# Altium footprint library MiscParts.PcbLib: 14 footprints
Each footprint in its own frame and in the unit in brackets; x right, y up, seen from the top. Pads: shape width x height; smd on the part's side, far side on the other; paste and mask are expansions set on the pad; w line width, h text height; cw(c..) or ccw(c..) is an arc to the next point about the centre after c.
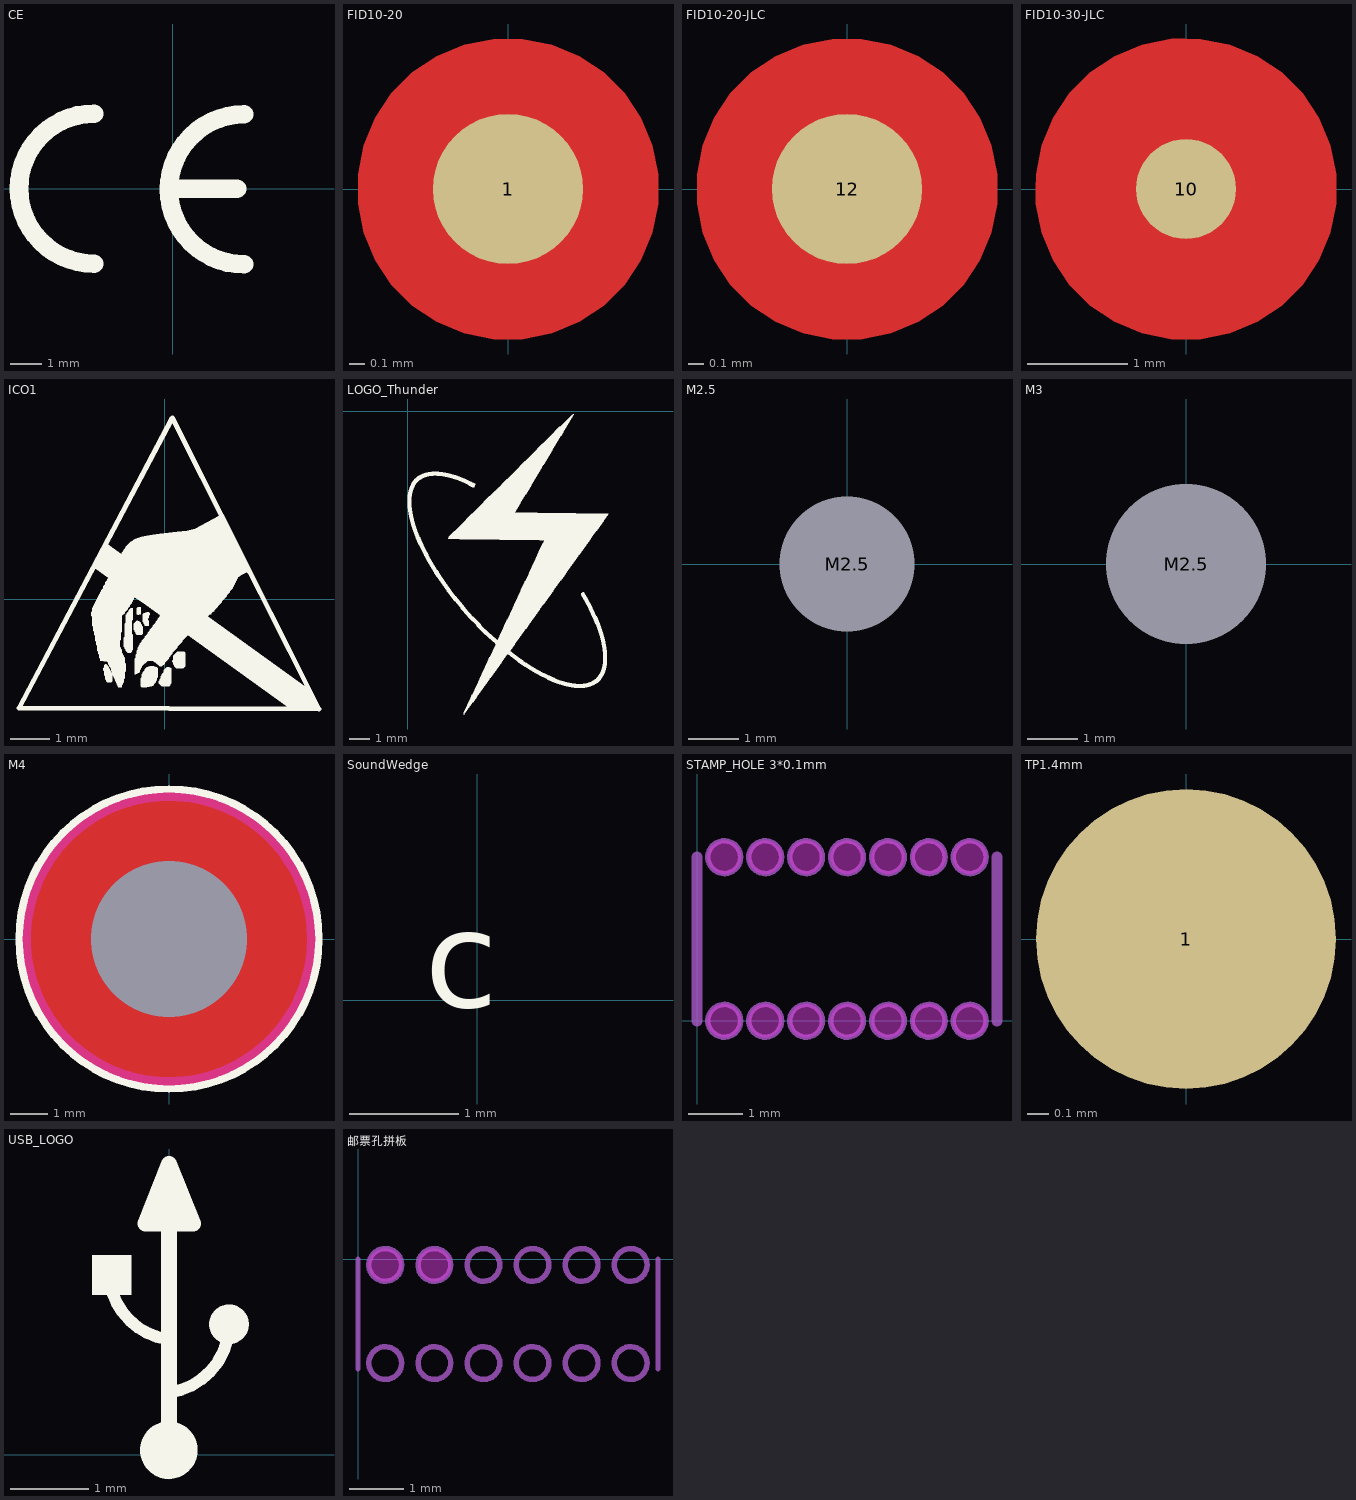
[diagram p0: the footprints below, top view; thin cyan lines are the x and y axes]

## CE [mm]
Top Overlay:
  lines w0.6: -2.53,-2.413 cw(c-2.53,0) -2.53,2.413 ; 0,0 2.07,0 ; 2.296,-2.438 cw(c2.296,-0.025) 2.296,2.388

## FID10-20 [mm] "Fiducial mark.  There is nothing to buy or mount."
pads (1):
  round 1 smd mask+0.5: 1(0,0)
Top Layer:
  pour cut-out: 0,-1 -0.098,-1 -0.292,-0.962 -0.474,-0.886 -0.637,-0.777 -0.777,-0.637 -0.886,-0.474 -0.962,-0.292 -1,-0.098 -1,0 -1,0.098 -0.962,0.292 -0.886,0.474 -0.777,0.637 -0.637,0.777 -0.474,0.886 -0.292,0.962 -0.098,1 0,1 0.098,1 0.292,0.962 0.474,0.886 0.637,0.777 0.777,0.637 0.886,0.474 0.962,0.292 1,0.098 1,0 1,-0.098 0.962,-0.292 0.886,-0.474 0.777,-0.637 0.637,-0.777 0.474,-0.886 0.292,-0.962 0.098,-1

## FID10-20-JLC [mm]
pads (1):
  round 1 smd mask+0.5: 12(0,0)
Top Layer:
  pour cut-out: 0,-1 -0.098,-1 -0.292,-0.962 -0.474,-0.886 -0.637,-0.777 -0.777,-0.637 -0.886,-0.474 -0.962,-0.292 -1,-0.098 -1,0 -1,0.098 -0.962,0.292 -0.886,0.474 -0.777,0.637 -0.637,0.777 -0.474,0.886 -0.292,0.962 -0.098,1 0,1 0.098,1 0.292,0.962 0.474,0.886 0.637,0.777 0.777,0.637 0.886,0.474 0.962,0.292 1,0.098 1,0 1,-0.098 0.962,-0.292 0.886,-0.474 0.777,-0.637 0.637,-0.777 0.474,-0.886 0.292,-0.962 0.098,-1

## FID10-30-JLC [mm] "嘉立创标准Mark点"
pads (1):
  round 1 smd mask+1: 10(0,0)
Top Layer:
  pour cut-out: 0,-1.5 -0.148,-1.5 -0.438,-1.442 -0.711,-1.329 -0.956,-1.165 -1.165,-0.956 -1.329,-0.711 -1.442,-0.438 -1.5,-0.148 -1.5,0 -1.5,0.148 -1.442,0.438 -1.329,0.711 -1.165,0.956 -0.956,1.165 -0.711,1.329 -0.438,1.442 -0.148,1.5 0,1.5 0.148,1.5 0.438,1.442 0.711,1.329 0.956,1.165 1.165,0.956 1.329,0.711 1.442,0.438 1.5,0.148 1.5,0 1.5,-0.148 1.442,-0.438 1.329,-0.711 1.165,-0.956 0.956,-1.165 0.711,-1.329 0.438,-1.442 0.148,-1.5

## ICO1 [mm]
Top Overlay:
  drawing of 14 lines, arcs and shapes, not listed

## LOGO_Thunder [mm]
Top Overlay:
  drawing of 2284 lines, arcs and shapes, not listed

## M2.5 [mm]
pads (1):
  round 2.5 hole 2.7 unplated paste+0 mask+1.75: M2.5(0,0)
Multi-Layer:
  pour cut-out: 0,-3 -0.197,-3 -0.587,-2.949 -0.966,-2.847 -1.33,-2.696 -1.67,-2.5 -1.982,-2.26 -2.26,-1.982 -2.5,-1.67 -2.696,-1.33 -2.847,-0.966 -2.949,-0.587 -3,-0.197 -3,0 -3,0.197 -2.949,0.587 -2.847,0.966 -2.696,1.33 -2.5,1.67 -2.26,1.982 -1.982,2.26 -1.67,2.5 -1.33,2.696 -0.966,2.847 -0.587,2.949 -0.197,3 0,3 0.197,3 0.587,2.949 0.966,2.847 1.33,2.696 1.67,2.5 1.982,2.26 2.26,1.982 2.5,1.67 2.696,1.33 2.847,0.966 2.949,0.587 3,0.197 3,0 3,-0.197 2.949,-0.587 2.847,-0.966 2.696,-1.33 2.5,-1.67 2.26,-1.982 1.982,-2.26 1.67,-2.5 1.33,-2.696 0.966,-2.847 0.587,-2.949 0.197,-3

## M3 [mm]
pads (1):
  round 2.5 hole 3.2 unplated paste+0 mask+1.75: M2.5(0,0)
Multi-Layer:
  pour cut-out: 0,-3 -0.197,-3 -0.587,-2.949 -0.966,-2.847 -1.33,-2.696 -1.67,-2.5 -1.982,-2.26 -2.26,-1.982 -2.5,-1.67 -2.696,-1.33 -2.847,-0.966 -2.949,-0.587 -3,-0.197 -3,0 -3,0.197 -2.949,0.587 -2.847,0.966 -2.696,1.33 -2.5,1.67 -2.26,1.982 -1.982,2.26 -1.67,2.5 -1.33,2.696 -0.966,2.847 -0.587,2.949 -0.197,3 0,3 0.197,3 0.587,2.949 0.966,2.847 1.33,2.696 1.67,2.5 1.982,2.26 2.26,1.982 2.5,1.67 2.696,1.33 2.847,0.966 2.949,0.587 3,0.197 3,0 3,-0.197 2.949,-0.587 2.847,-0.966 2.696,-1.33 2.5,-1.67 2.26,-1.982 1.982,-2.26 1.67,-2.5 1.33,-2.696 0.966,-2.847 0.587,-2.949 0.197,-3

## M4 [mm]
pads (1):
  round 0 hole 4.15 unplated paste+0 mask+4: M2.5(0,0)
Top Layer:
  pour cut-out: 0,-4 -0.262,-4 -0.782,-3.932 -1.289,-3.796 -1.773,-3.595 -2.227,-3.333 -2.643,-3.014 -3.014,-2.643 -3.333,-2.227 -3.595,-1.773 -3.796,-1.289 -3.932,-0.782 -4,-0.262 -4,0 -4,0.262 -3.932,0.782 -3.796,1.289 -3.595,1.773 -3.333,2.227 -3.014,2.643 -2.643,3.014 -2.227,3.333 -1.773,3.595 -1.289,3.796 -0.782,3.932 -0.262,4 0,4 0.262,4 0.782,3.932 1.289,3.796 1.773,3.595 2.227,3.333 2.643,3.014 3.014,2.643 3.333,2.227 3.595,1.773 3.796,1.289 3.932,0.782 4,0.262 4,0 4,-0.262 3.932,-0.782 3.796,-1.289 3.595,-1.773 3.333,-2.227 3.014,-2.643 2.643,-3.014 2.227,-3.333 1.773,-3.595 1.289,-3.796 0.782,-3.932 0.262,-4
Bottom Layer:
  pour cut-out: 0,-4 -0.262,-4 -0.782,-3.932 -1.289,-3.796 -1.773,-3.595 -2.227,-3.333 -2.643,-3.014 -3.014,-2.643 -3.333,-2.227 -3.595,-1.773 -3.796,-1.289 -3.932,-0.782 -4,-0.262 -4,0 -4,0.262 -3.932,0.782 -3.796,1.289 -3.595,1.773 -3.333,2.227 -3.014,2.643 -2.643,3.014 -2.227,3.333 -1.773,3.595 -1.289,3.796 -0.782,3.932 -0.262,4 0,4 0.262,4 0.782,3.932 1.289,3.796 1.773,3.595 2.227,3.333 2.643,3.014 3.014,2.643 3.333,2.227 3.595,1.773 3.796,1.289 3.932,0.782 4,0.262 4,0 4,-0.262 3.932,-0.782 3.796,-1.289 3.595,-1.773 3.333,-2.227 3.014,-2.643 2.643,-3.014 2.227,-3.333 1.773,-3.595 1.289,-3.796 0.782,-3.932 0.262,-4
Top Overlay:
  circle w0.2: c0,0 r4
Keep-Out Layer:
  circle w0.254: c0,0 r3.808

## SoundWedge [mm]
Top Overlay:
  text "c" at -0.483,-0.356 h1.52

## STAMP_HOLE 3*0.1mm [mm]
Keep-Out Layer:
  drawing of 14 lines, arcs and shapes, not listed
Board Outline:
  circle w0.1: c0.5,3 r0.3
  circle w0.1: c5,3 r0.3
  circle w0.1: c4.25,3 r0.3
  circle w0.1: c3.5,3 r0.3
  circle w0.1: c2.75,3 r0.3
  circle w0.1: c2,3 r0.3
  circle w0.1: c1.25,3 r0.3
  circle w0.1: c5,0 r0.3
  circle w0.1: c4.25,0 r0.3
  circle w0.1: c3.5,0 r0.3
  circle w0.1: c2.75,0 r0.3
  circle w0.1: c2,0 r0.3
  circle w0.1: c1.25,0 r0.3
  circle w0.1: c0.5,0 r0.3
  lines w0.2: 0,0 0,3 ; 5.5,0 5.5,3

## TP1.4mm [mm]
pads (1):
  round 1.4 smd: 1(0,0)

## USB_LOGO [mm]
height 10.16
Top Overlay:
  circle w0.381: c-0.003,0.056 r0.178
  circle w0.254: c0.767,1.665 r0.127
  rectangle: -0.988,2.038 -0.478,2.548
  lines w0.152: -0.728,2.079 ccw(c0.119,2.349) -0.001,1.468 ; -0.001,0.791 ccw(c-0.12,1.672) 0.767,1.62
  lines w0.203: -0.001,0.191 -0.001,3.714 ; -0.001,2.95 -0.001,3.714 ; -0.001,3.714 -0.3,2.952 0.309,2.952 -0.001,3.714
  lines w0.381: -0.001,3.054 -0.001,3.155

## 邮票孔拼板 [mm] "要求板间距2mm"
Keep-Out Layer:
  board cut-out: 0.2,-0.1 0.2,-0.16 0.246,-0.27 0.33,-0.354 0.44,-0.4 0.5,-0.4 0.56,-0.4 0.67,-0.354 0.754,-0.27 0.8,-0.16 0.8,-0.1 0.8,-0.04 0.754,0.07 0.67,0.154 0.56,0.2 0.5,0.2 0.44,0.2 0.33,0.154 0.246,0.07 0.2,-0.04
  board cut-out: 1.1,-0.1 1.1,-0.16 1.146,-0.27 1.23,-0.354 1.34,-0.4 1.4,-0.4 1.46,-0.4 1.57,-0.354 1.654,-0.27 1.7,-0.16 1.7,-0.1 1.7,-0.04 1.654,0.07 1.57,0.154 1.46,0.2 1.4,0.2 1.34,0.2 1.23,0.154 1.146,0.07 1.1,-0.04
Board Outline:
  circle w0.1: c0.5,-1.9 r0.3
  circle w0.1: c1.4,-1.9 r0.3
  circle w0.1: c3.2,-1.9 r0.3
  circle w0.1: c2.3,-1.9 r0.3
  circle w0.1: c5,-1.9 r0.3
  circle w0.1: c4.1,-1.9 r0.3
  circle w0.1: c4.1,-0.1 r0.3
  circle w0.1: c5,-0.1 r0.3
  circle w0.1: c2.3,-0.1 r0.3
  circle w0.1: c3.2,-0.1 r0.3
  circle w0.1: c1.4,-0.1 r0.3
  circle w0.1: c0.5,-0.1 r0.3
  lines w0.1: 0,-2 0,0 ; 5.5,-2 5.5,0